# Altium schematic symbol library sn74lvc1t45dbvr.SchLib: 1 symbol
Pins are listed as number, name and electrical type; pins without a type are passive.

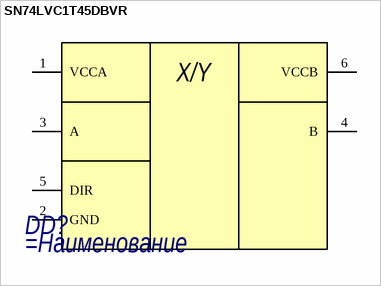
[diagram p0: symbol SN74LVC1T45DBVR]

## SN74LVC1T45DBVR
designator DD?
=Описание
pins: 1 VCCA, 2 GND, 3 A, 4 B, 5 DIR, 6 VCCB
text: X/Y